# Altium footprint library 686 1xx 183 522.PcbLib: 9 footprints
Each footprint in its own frame and in the unit in brackets; x right, y up, seen from the top. Pads: shape width x height; smd on the part's side, far side on the other; paste and mask are expansions set on the pad; w line width, h text height; cw(c..) or ccw(c..) is an arc to the next point about the centre after c.
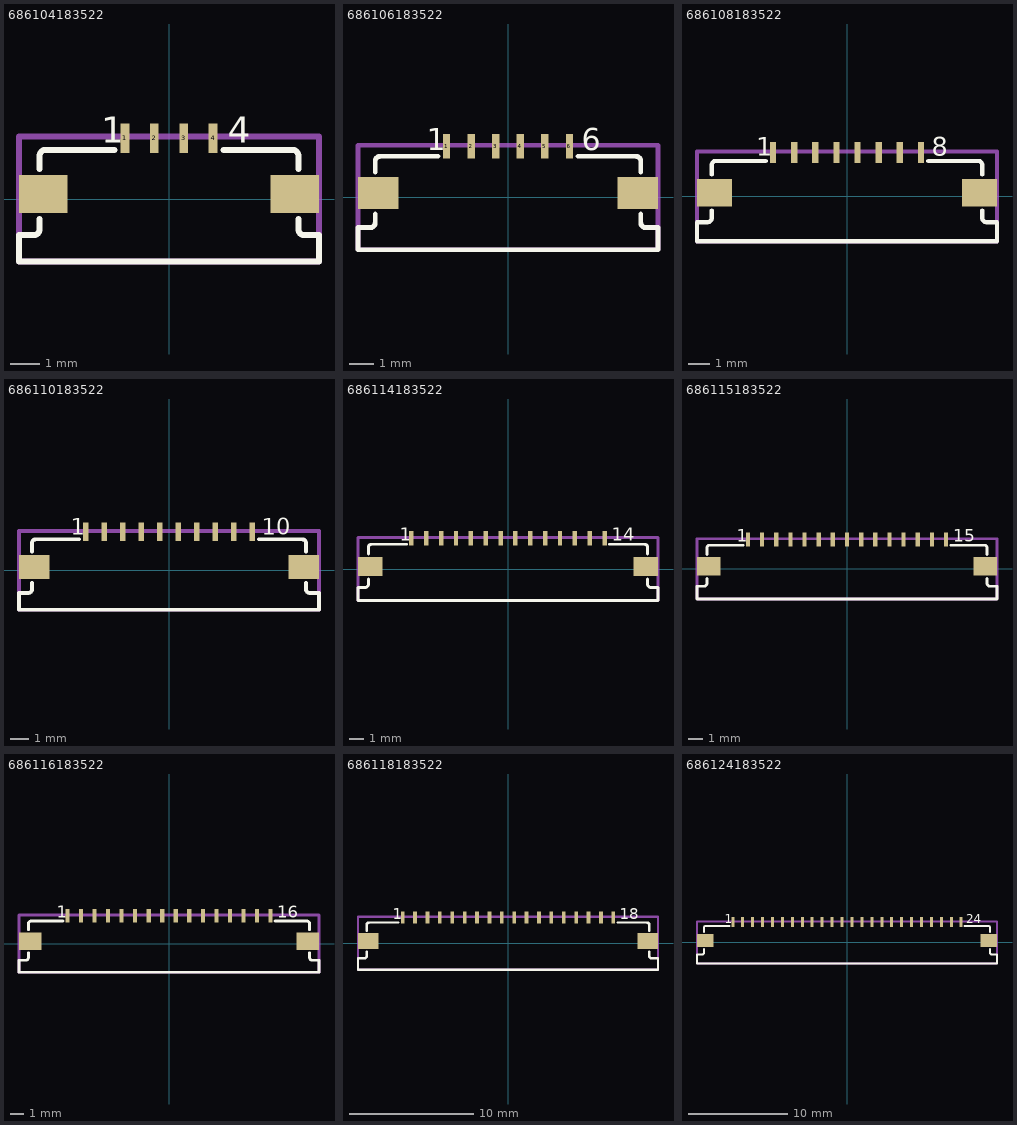
[diagram p0: the footprints below, top view; thin cyan lines are the x and y axes]

## 686104183522 [mm] "1.00 mm SMT Horizontal Bottom Contact - Low Profile, 4p"
height 1.2
pads (6):
  rect 0.3x1 smd: 1(-1.5,2.075) 2(-0.5,2.075) 3(0.5,2.075) 4(1.5,2.075)
  rect 1.65x1.3 smd: ""(-4.275,0.175) ""(4.275,0.175)
Top Overlay:
  lines w0.2: -4.4,-0.675 -4.4,-1.025 cw(c-4.6,-1.025) -4.6,-1.225 -5.1,-1.225 -5.1,-2.125 5.1,-2.125 5.1,-1.225 4.6,-1.225 cw(c4.6,-1.025) 4.4,-1.025 4.4,-0.675 ; -4.4,1.025 -4.4,1.475 cw(c-4.2,1.475) -4.2,1.675 -1.85,1.675 ; 1.85,1.675 4.2,1.675 cw(c4.2,1.475) 4.4,1.475 4.4,1.025
  text "1" at -2.3,1.925 h0.89
  text "4" at 2,1.925 h0.89
Mechanical 13:
  lines w0.2: -5.1,-2.125 5.1,-2.125 5.1,2.125 -5.1,2.125 -5.1,-2.125
3D body "686104183522.stp": height 1.25, standoff 0, extent -5.1,-2.125 5.1,2.125

## 686106183522 [mm] "1.00 mm SMT Horizontal Bottom Contact - Low Profile, 6p"
height 1.2
pads (8):
  rect 0.3x1 smd: 1(-2.5,2.075) 2(-1.5,2.075) 3(-0.5,2.075) 4(0.5,2.075) 5(1.5,2.075) 6(2.5,2.075)
  rect 1.65x1.3 smd: ""(-5.275,0.175) ""(5.275,0.175)
Top Overlay:
  lines w0.2: -5.4,-0.675 -5.4,-1.025 cw(c-5.6,-1.025) -5.6,-1.225 -6.1,-1.225 -6.1,-2.125 6.1,-2.125 6.1,-1.225 5.6,-1.225 cw(c5.6,-1.025) 5.4,-1.025 5.4,-0.675 ; -5.4,1.025 -5.4,1.475 cw(c-5.2,1.475) -5.2,1.675 -2.85,1.675 ; 2.85,1.675 5.2,1.675 cw(c5.2,1.475) 5.4,1.475 5.4,1.025
  text "1" at -3.3,1.925 h0.89
  text "6" at 3,1.925 h0.89
Mechanical 13:
  lines w0.2: -6.1,-2.125 6.1,-2.125 6.1,2.125 -6.1,2.125 -6.1,-2.125
3D body "686106183522.stp": height 1.25, standoff 0, extent -6.1,-2.125 6.1,2.125

## 686108183522 [mm] "1.00 mm SMT Horizontal Bottom Contact - Low Profile, 8p"
height 1.2
pads (10):
  rect 0.3x1 smd: 1(-3.5,2.075) 2(-2.5,2.075) 3(-1.5,2.075) 4(-0.5,2.075) 5(0.5,2.075) 6(1.5,2.075) 7(2.5,2.075) 8(3.5,2.075)
  rect 1.65x1.3 smd: ""(-6.275,0.175) ""(6.275,0.175)
Top Overlay:
  lines w0.2: -6.4,-0.675 -6.4,-1.025 cw(c-6.6,-1.025) -6.6,-1.225 -7.1,-1.225 -7.1,-2.125 7.1,-2.125 ; -6.4,1.025 -6.4,1.475 cw(c-6.2,1.475) -6.2,1.675 -3.85,1.675 ; 3.85,1.675 6.2,1.675 cw(c6.2,1.475) 6.4,1.475 6.4,1.025 ; 6.4,-0.675 6.4,-1.025 ccw(c6.6,-1.025) 6.6,-1.225 7.1,-1.225 7.1,-2.125
  text "1" at -4.3,1.925 h0.89
  text "8" at 4,1.925 h0.89
Mechanical 13:
  lines w0.2: -7.1,-2.125 7.1,-2.125 7.1,2.125 -7.1,2.125 -7.1,-2.125
3D body "686108183522.stp": height 1.25, standoff 0, extent -7.1,-2.125 7.1,2.125

## 686110183522 [mm] "1.00 mm SMT Horizontal Bottom Contact - Low Profile, 10p"
height 1.2
pads (12):
  rect 0.3x1 smd: 1(-4.5,2.075) 2(-3.5,2.075) 3(-2.5,2.075) 4(-1.5,2.075) 5(-0.5,2.075) 6(0.5,2.075) 7(1.5,2.075) 8(2.5,2.075) 9(3.5,2.075) 10(4.5,2.075)
  rect 1.65x1.3 smd: ""(-7.275,0.175) ""(7.275,0.175)
Top Overlay:
  lines w0.2: -7.4,-0.675 -7.4,-1.025 cw(c-7.6,-1.025) -7.6,-1.225 -8.1,-1.225 -8.1,-2.125 8.1,-2.125 8.1,-1.225 7.6,-1.225 cw(c7.6,-1.025) 7.4,-1.025 7.4,-0.675 ; -7.4,1.025 -7.4,1.475 cw(c-7.2,1.475) -7.2,1.675 -4.85,1.675 ; 4.85,1.675 7.2,1.675 cw(c7.2,1.475) 7.4,1.475 7.4,1.025
  text "10" at 5,1.925 h0.89
  text "1" at -5.3,1.925 h0.89
Mechanical 13:
  lines w0.2: -8.1,-2.125 -8.1,2.125 8.1,2.125 8.1,-2.125 -8.1,-2.125
3D body "686110183522.stp": height 1.25, standoff 0, extent -8.1,-2.125 8.1,2.125

## 686114183522 [mm] "1.00 mm SMT Horizontal Bottom Contact - Low Profile, 14p"
height 1.2
pads (16):
  rect 0.3x1 smd: 1(-6.5,2.075) 2(-5.5,2.075) 3(-4.5,2.075) 4(-3.5,2.075) 5(-2.5,2.075) 6(-1.5,2.075) 7(-0.5,2.075) 8(0.5,2.075) 9(1.5,2.075) 10(2.5,2.075) 11(3.5,2.075) 12(4.5,2.075) 13(5.5,2.075) 14(6.5,2.075)
  rect 1.65x1.3 smd: ""(-9.275,0.175) ""(9.275,0.175)
Top Overlay:
  lines w0.2: -9.4,-0.675 -9.4,-1.025 cw(c-9.6,-1.025) -9.6,-1.225 -10.1,-1.225 -10.1,-2.125 10.1,-2.125 10.1,-1.225 9.6,-1.225 cw(c9.6,-1.025) 9.4,-1.025 9.4,-0.675 ; -9.4,1.025 -9.4,1.475 cw(c-9.2,1.475) -9.2,1.675 -6.85,1.675 ; 6.85,1.675 9.2,1.675 cw(c9.2,1.475) 9.4,1.475 9.4,1.025
  text "1" at -7.3,1.925 h0.89
  text "14" at 7,1.925 h0.89
Mechanical 13:
  lines w0.2: -10.1,-2.125 10.1,-2.125 10.1,2.125 -10.1,2.125 -10.1,-2.125
3D body "686114183522.stp": height 1.25, standoff 0, extent -10.1,-2.125 10.1,2.125

## 686115183522 [mm] "1.00 mm SMT Horizontal Bottom Contact - Low Profile, 15p"
height 1.2
pads (17):
  rect 0.3x1 smd: 1(-7,2.075) 2(-6,2.075) 3(-5,2.075) 4(-4,2.075) 5(-3,2.075) 6(-2,2.075) 7(-1,2.075) 8(0,2.075) 9(1,2.075) 10(2,2.075) 11(3,2.075) 12(4,2.075) 13(5,2.075) 14(6,2.075) 15(7,2.075)
  rect 1.65x1.3 smd: ""(-9.775,0.175) ""(9.775,0.175)
Top Overlay:
  lines w0.2: -9.9,-0.675 -9.9,-1.025 cw(c-10.1,-1.025) -10.1,-1.225 -10.6,-1.225 -10.6,-2.125 10.6,-2.125 10.6,-1.225 10.1,-1.225 cw(c10.1,-1.025) 9.9,-1.025 9.9,-0.675 ; -9.9,1.025 -9.9,1.475 cw(c-9.7,1.475) -9.7,1.675 -7.35,1.675 ; 7.35,1.675 9.7,1.675 cw(c9.7,1.475) 9.9,1.475 9.9,1.025
  text "1" at -7.8,1.925 h0.89
  text "15" at 7.5,1.925 h0.89
Mechanical 13:
  lines w0.2: -10.6,-2.125 10.6,-2.125 10.6,2.125 -10.6,2.125 -10.6,-2.125
3D body "686115183522.stp": height 1.25, standoff 0, extent -10.6,-2.125 10.6,2.125

## 686116183522 [mm] "1.00 mm SMT Horizontal Bottom Contact - Low Profile, 16p"
height 1.2
pads (18):
  rect 0.3x1 smd: 1(-7.5,2.075) 2(-6.5,2.075) 3(-5.5,2.075) 4(-4.5,2.075) 5(-3.5,2.075) 6(-2.5,2.075) 7(-1.5,2.075) 8(-0.5,2.075) 9(0.5,2.075) 10(1.5,2.075) 11(2.5,2.075) 12(3.5,2.075) 13(4.5,2.075) 14(5.5,2.075) 15(6.5,2.075) 16(7.5,2.075)
  rect 1.65x1.3 smd: ""(-10.275,0.175) ""(10.275,0.175)
Top Overlay:
  lines w0.2: -10.4,-0.675 -10.4,-1.025 cw(c-10.6,-1.025) -10.6,-1.225 -11.1,-1.225 -11.1,-2.125 11.1,-2.125 11.1,-1.225 10.6,-1.225 cw(c10.6,-1.025) 10.4,-1.025 10.4,-0.675 ; -10.4,1.025 -10.4,1.475 cw(c-10.2,1.475) -10.2,1.675 -7.85,1.675 ; 7.85,1.675 10.2,1.675 cw(c10.2,1.475) 10.4,1.475 10.4,1.025
  text "16" at 8,1.925 h0.89
  text "1" at -8.3,1.925 h0.89
Mechanical 13:
  lines w0.2: -11.1,-2.125 -11.1,2.125 11.1,2.125 11.1,-2.125 -11.1,-2.125
3D body "686116183522.stp": height 1.25, standoff 0, extent -11.1,-2.125 11.1,2.125

## 686118183522 [mm] "1.00 mm SMT Horizontal Bottom Contact - Low Profile, 18p"
height 1.2
pads (20):
  rect 0.3x1 smd: 1(-8.5,2.075) 2(-7.5,2.075) 3(-6.5,2.075) 4(-5.5,2.075) 5(-4.5,2.075) 6(-3.5,2.075) 7(-2.5,2.075) 8(-1.5,2.075) 9(-0.5,2.075) 10(0.5,2.075) 11(1.5,2.075) 12(2.5,2.075) 13(3.5,2.075) 14(4.5,2.075) 15(5.5,2.075) 16(6.5,2.075) 17(7.5,2.075) 18(8.5,2.075)
  rect 1.65x1.3 smd: ""(-11.275,0.175) ""(11.275,0.175)
Top Overlay:
  lines w0.2: -11.4,-0.675 -11.4,-1.025 cw(c-11.6,-1.025) -11.6,-1.225 -12.1,-1.225 -12.1,-2.125 12.1,-2.125 12.1,-1.225 11.6,-1.225 cw(c11.6,-1.025) 11.4,-1.025 11.4,-0.675 ; -11.4,1.025 -11.4,1.475 cw(c-11.2,1.475) -11.2,1.675 -8.85,1.675 ; 8.85,1.675 11.2,1.675 cw(c11.2,1.475) 11.4,1.475 11.4,1.025
  text "1" at -9.3,1.925 h0.89
  text "18" at 9,1.925 h0.89
Mechanical 13:
  lines w0.2: -12.1,-2.125 12.1,-2.125 12.1,2.125 -12.1,2.125 -12.1,-2.125
3D body "686118183522.stp": height 1.25, standoff 0, extent -12.1,-2.125 12.1,2.125

## 686124183522 [mm] "1.00 mm SMT Horizontal Bottom Contact - Low Profile, 24p"
height 1.2
pads (26):
  rect 0.3x1 smd: 1(-11.5,2.075) 2(-10.5,2.075) 3(-9.5,2.075) 4(-8.5,2.075) 5(-7.5,2.075) 6(-6.5,2.075) 7(-5.5,2.075) 8(-4.5,2.075) 9(-3.5,2.075) 10(-2.5,2.075) 11(-1.5,2.075) 12(-0.5,2.075) 13(0.5,2.075) 14(1.5,2.075) 15(2.5,2.075) 16(3.5,2.075) 17(4.5,2.075) 18(5.5,2.075) 19(6.5,2.075) 20(7.5,2.075) 21(8.5,2.075) 22(9.5,2.075) 23(10.5,2.075) 24(11.5,2.075)
  rect 1.65x1.3 smd: ""(-14.275,0.175) ""(14.275,0.175)
Top Overlay:
  lines w0.2: -14.4,-0.675 -14.4,-1.025 cw(c-14.6,-1.025) -14.6,-1.225 -15.1,-1.225 -15.1,-2.125 15.1,-2.125 15.1,-1.225 14.6,-1.225 cw(c14.6,-1.025) 14.4,-1.025 14.4,-0.675 ; -14.4,1.025 -14.4,1.475 cw(c-14.2,1.475) -14.2,1.675 -11.85,1.675 ; 11.85,1.675 14.2,1.675 cw(c14.2,1.475) 14.4,1.475 14.4,1.025
  text "24" at 12,1.925 h0.89
  text "1" at -12.3,1.925 h0.89
Mechanical 13:
  lines w0.2: -15.1,-2.125 -15.1,2.125 15.1,2.125 15.1,-2.125 -15.1,-2.125
3D body "686124183522.stp": height 1.25, standoff 0, extent -15.1,-2.125 15.1,2.125